# Altium footprint library ECS-480-7-33B2-CKM-TR3.PcbLib: 1 footprints
Each footprint in its own frame and in the unit in brackets; x right, y up, seen from the top. Pads: shape width x height; smd on the part's side, far side on the other; paste and mask are expansions set on the pad; w line width, h text height; cw(c..) or ccw(c..) is an arc to the next point about the centre after c.
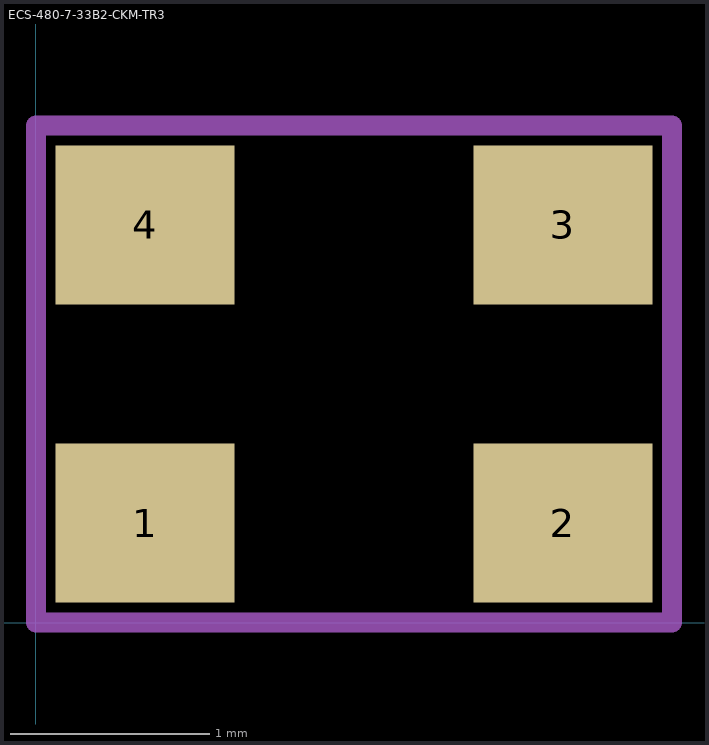
[diagram p0: the footprint, top view; thin cyan lines are the x and y axes]

## ECS-480-7-33B2-CKM-TR3 [mm]
pads (4):
  rect 0.9x0.8 smd: 1(0.55,0.5) 2(2.65,0.5) 3(2.65,2) 4(0.55,2)
Mechanical 1:
  lines w0.1: 0,0 3.2,0 3.2,2.5 0,2.5 0,0